# Altium footprint library Analog Devices Operational Amplifiers.PcbLib: 122 footprints (part 1 of 8)
Each footprint in its own frame and in the unit in brackets; x right, y up, seen from the top. Pads: shape width x height; smd on the part's side, far side on the other; paste and mask are expansions set on the pad; w line width, h text height; cw(c..) or ccw(c..) is an arc to the next point about the centre after c.
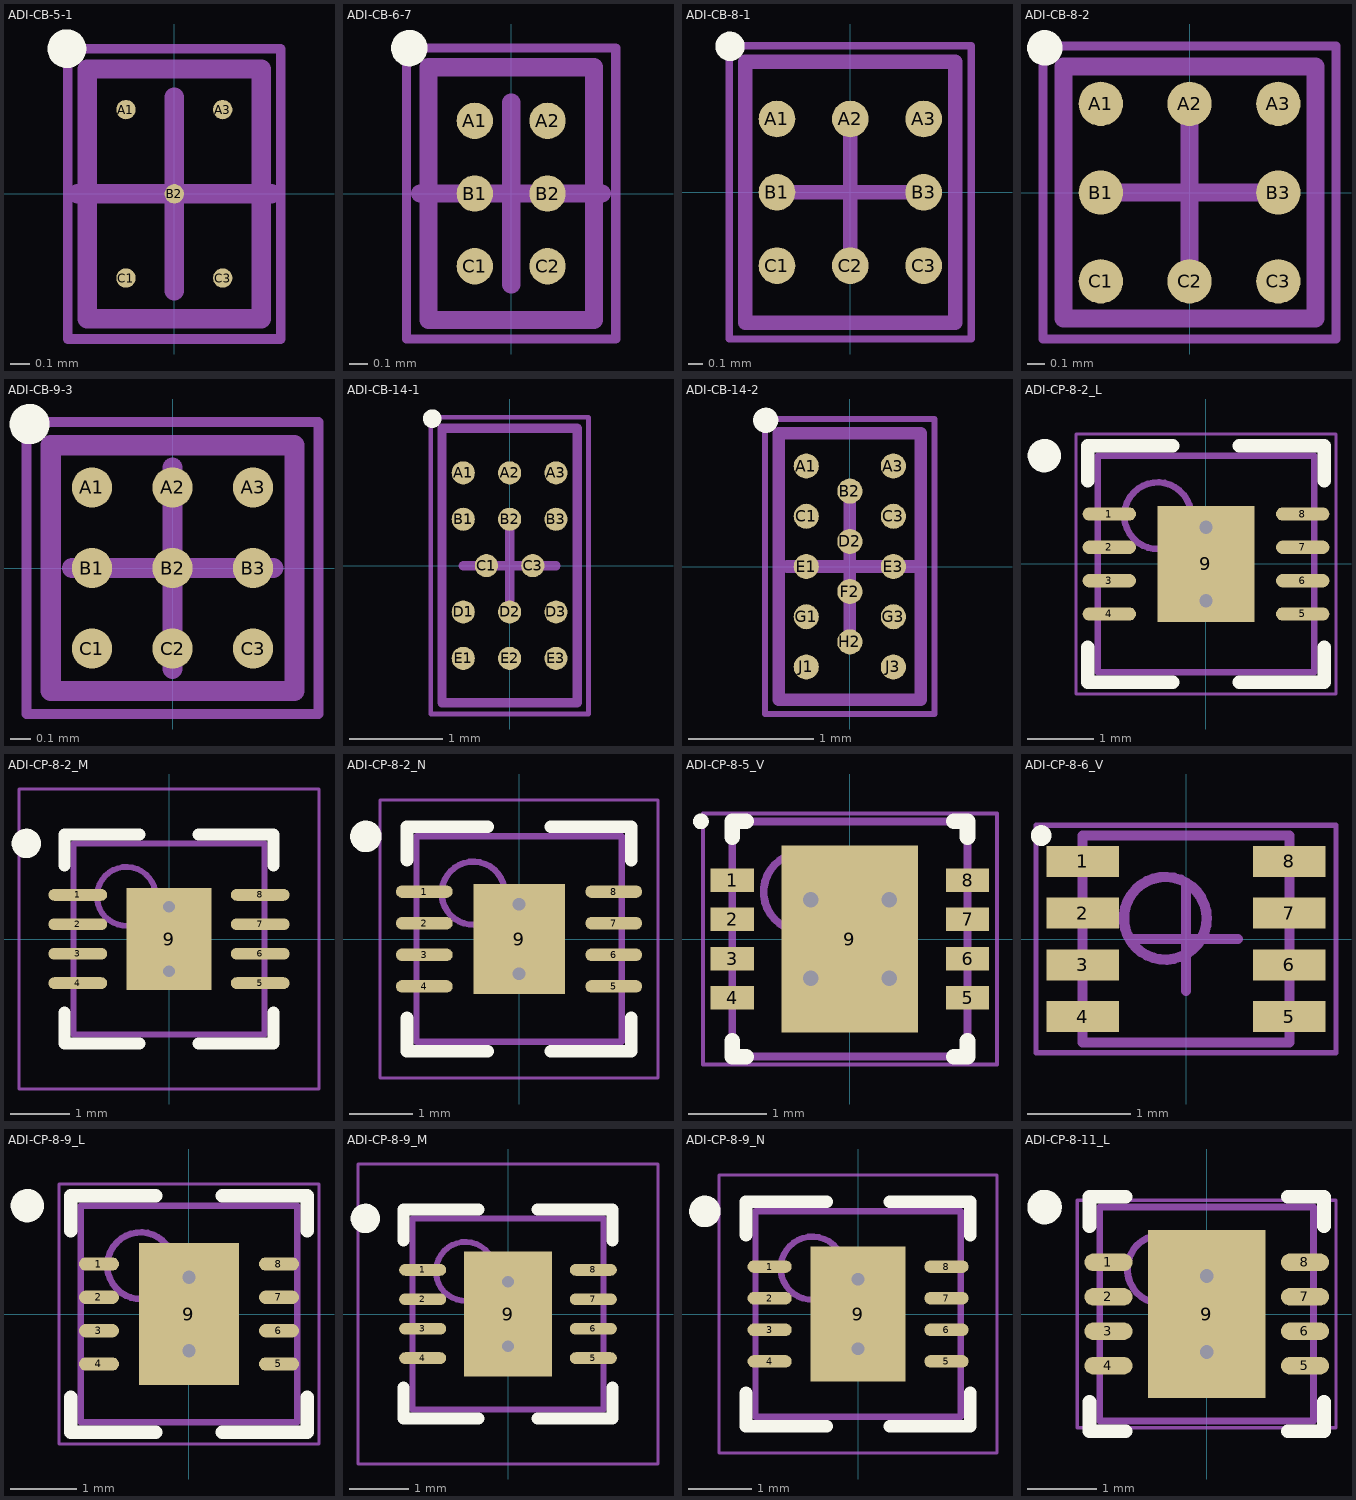
[diagram p0: the footprints below, top view; thin cyan lines are the x and y axes]

## ADI-CB-5-1 [mm] "BGA, 5-Balls, Body 1.29x0.9mm, Pitch 0.5mm"
height 0.5
pads (5):
  round 0.1 smd: A1(-0.25,0.435) A3(0.25,0.435) B2(0,0) C1(-0.25,-0.435) C3(0.25,-0.435)
Top Overlay:
  circle w0.1: c-0.555,0.75 r0.05
Mechanical 13:
  lines w0.1: -0.45,-0.645 -0.45,0.645 0.45,0.645 0.45,-0.645 -0.45,-0.645
Mechanical 15:
  lines w0.05: -0.55,-0.75 -0.55,0.75 0.55,0.75 0.55,-0.75 -0.55,-0.75
  lines w0.1: -0.5,0 0.5,0 ; 0,-0.5 0,0.5
3D body: height 0.5, standoff 0.12, extent -0.45,-0.645 0.45,0.645

## ADI-CB-6-7 [mm] "BGA, 6-Balls, Body 1.385x0.905mm, Pitch 0.4mm"
height 0.65
pads (6):
  round 0.2 smd: A1(-0.2,0.4) A2(0.2,0.4) B1(-0.2,0) B2(0.2,0) C1(-0.2,-0.4) C2(0.2,-0.4)
Top Overlay:
  circle w0.1: c-0.56,0.8 r0.05
Mechanical 13:
  lines w0.1: -0.455,-0.695 -0.455,0.695 0.455,0.695 0.455,-0.695 -0.455,-0.695
Mechanical 15:
  lines w0.05: -0.575,-0.8 -0.575,0.8 0.575,0.8 0.575,-0.8 -0.575,-0.8
  lines w0.1: -0.5,0 0.5,0 ; 0,-0.5 0,0.5
3D body: height 0.65, standoff 0.17, extent -0.455,-0.695 0.455,0.695

## ADI-CB-8-1 [mm] "BGA, 8-Balls, Body 1.775x1.43mm, Pitch 0.5mm"
height 0.68
pads (8):
  round 0.25 smd: A1(-0.5,0.5) A2(0,0.5) A3(0.5,0.5) B1(-0.5,0) B3(0.5,0) C1(-0.5,-0.5) C2(0,-0.5) C3(0.5,-0.5)
Top Overlay:
  circle w0.1: c-0.82,0.995 r0.05
Mechanical 13:
  lines w0.1: -0.715,-0.89 -0.715,0.89 0.715,0.89 0.715,-0.89 -0.715,-0.89
Mechanical 15:
  lines w0.05: -0.825,-1 -0.825,1 0.825,1 0.825,-1 -0.825,-1
  lines w0.1: -0.5,0 0.5,0 ; 0,-0.5 0,0.5
3D body: height 0.68, standoff 0.21, extent -0.715,-0.89 0.715,0.89

## ADI-CB-8-2 [mm] "BGA, 8-Balls, Body 1.42x1.42mm, Pitch 0.5mm"
height 0.65
pads (8):
  round 0.25 smd: A1(-0.5,0.5) A2(0,0.5) A3(0.5,0.5) B1(-0.5,0) B3(0.5,0) C1(-0.5,-0.5) C2(0,-0.5) C3(0.5,-0.5)
Top Overlay:
  circle w0.1: c-0.815,0.815 r0.05
Mechanical 13:
  lines w0.1: -0.71,-0.71 -0.71,0.71 0.71,0.71 0.71,-0.71 -0.71,-0.71
Mechanical 15:
  lines w0.05: -0.825,-0.825 -0.825,0.825 0.825,0.825 0.825,-0.825 -0.825,-0.825
  lines w0.1: -0.5,0 0.5,0 ; 0,-0.5 0,0.5
3D body: height 0.65, standoff 0.21, extent -0.71,-0.71 0.71,0.71

## ADI-CB-9-3 [mm] "BGA, 9-Balls, Body 1.22x1.21mm, Pitch 0.4mm"
height 0.65
pads (9):
  round 0.2 smd: A1(-0.4,0.4) A2(0,0.4) A3(0.4,0.4) B1(-0.4,0) B2(0,0) B3(0.4,0) C1(-0.4,-0.4) C2(0,-0.4) C3(0.4,-0.4)
Top Overlay:
  circle w0.1: c-0.71,0.715 r0.05
Mechanical 13:
  lines w0.1: -0.605,-0.61 -0.605,0.61 0.605,0.61 0.605,-0.61 -0.605,-0.61
Mechanical 15:
  lines w0.05: -0.725,-0.725 -0.725,0.725 0.725,0.725 0.725,-0.725 -0.725,-0.725
  lines w0.1: -0.5,0 0.5,0 ; 0,-0.5 0,0.5
3D body: height 0.65, standoff 0.17, extent -0.605,-0.61 0.605,0.61

## ADI-CB-14-1 [mm] "BGA, 14-Balls, Body 2.96x1.46mm, Pitch 0.5mm"
height 0.65
pads (14):
  round 0.25 smd: A1(-0.5,1) A2(0,1) A3(0.5,1) B1(-0.5,0.5) B2(0,0.5) B3(0.5,0.5) C1(-0.25,0) C3(0.25,0) D1(-0.5,-0.5) D2(0,-0.5) D3(0.5,-0.5) E1(-0.5,-1) E2(0,-1) E3(0.5,-1)
Top Overlay:
  circle w0.1: c-0.835,1.585 r0.05
Mechanical 13:
  lines w0.1: -0.73,-1.48 0.73,-1.48 0.73,1.48 -0.73,1.48 -0.73,-1.48
Mechanical 15:
  lines w0.05: -0.85,-1.6 0.85,-1.6 0.85,1.6 -0.85,1.6 -0.85,-1.6
  lines w0.1: -0.5,0 0.5,0 ; 0,-0.5 0,0.5
3D body: height 0.65, standoff 0.21, extent -0.73,-1.48 0.73,1.48

## ADI-CB-14-2 [mm] "BGA, 14-Balls, Body 2.123x1.128mm, Pitch 0.4mm"
height 0.65
pads (14):
  round 0.2 smd: A1(-0.347,0.8) A3(0.347,0.8) B2(0,0.6) C1(-0.347,0.4) C3(0.347,0.4) D2(0,0.2) E1(-0.347,0) E3(0.347,0) F2(0,-0.2) G1(-0.347,-0.4) G3(0.347,-0.4) H2(0,-0.6) J1(-0.347,-0.8) J3(0.347,-0.8)
Top Overlay:
  circle w0.1: c-0.67,1.165 r0.05
Mechanical 13:
  lines w0.1: -0.565,-1.06 -0.565,1.06 0.565,1.06 0.565,-1.06 -0.565,-1.06
Mechanical 15:
  lines w0.05: -0.675,-1.175 -0.675,1.175 0.675,1.175 0.675,-1.175 -0.675,-1.175
  lines w0.1: -0.5,0 0.5,0 ; 0,-0.5 0,0.5
3D body: height 0.65, standoff 0.17, extent -0.565,-1.06 0.565,1.06

## ADI-CP-8-2_L [mm] "QFN, 8-Leads, Body 3x3mm, Pitch 0.5mm, Thermal Pad 1.45X1.74mm, IPC High Density"
height 0.9
pads (9):
  oval 0.8x0.2 smd: 1(-1.45,0.75) 2(-1.45,0.25) 3(-1.45,-0.25) 4(-1.45,-0.75) 5(1.45,-0.75) 6(1.45,-0.25) 7(1.45,0.25) 8(1.45,0.75)
  rect 1.45x1.74 smd: 9(0,0)
via 0,0.55 diameter 0.5 hole 0.2
via 0,-0.55 diameter 0.5 hole 0.2
Top Overlay:
  circle w0.25: c-2.425,1.625 r0.125
  lines w0.2: -1.775,-1.25 -1.775,-1.775 -0.5,-1.775 ; -1.775,1.25 -1.775,1.775 -0.5,1.775 ; 0.5,-1.775 1.775,-1.775 1.775,-1.25 ; 0.5,1.775 1.775,1.775 1.775,1.25
Mechanical 13:
  circle w0.1: c-0.725,0.725 r0.5
  lines w0.1: -1.625,-1.625 -1.625,1.625 1.625,1.625 1.625,-1.625 -1.625,-1.625
Mechanical 15:
  lines w0.05: -1.95,-1.95 -1.95,1.95 1.95,1.95 1.95,-1.95 -1.95,-1.95
  lines w0.1: -0.5,0 0.5,0 ; 0,-0.5 0,0.5
3D body: height 0.9, standoff 0, extent -1.625,-1.625 1.625,1.625

## ADI-CP-8-2_M [mm] "QFN, 8-Leads, Body 3x3mm, Pitch 0.5mm, Thermal Pad 1.45X1.74mm, IPC Low Density"
height 0.9
pads (9):
  oval 1x0.2 smd: 1(-1.55,0.75) 2(-1.55,0.25) 3(-1.55,-0.25) 4(-1.55,-0.75) 5(1.55,-0.75) 6(1.55,-0.25) 7(1.55,0.25) 8(1.55,0.75)
  rect 1.45x1.74 smd: 9(0,0)
via 0,0.55 diameter 0.5 hole 0.2
via 0,-0.55 diameter 0.5 hole 0.2
Top Overlay:
  circle w0.25: c-2.425,1.625 r0.125
  lines w0.2: -1.775,-1.25 -1.775,-1.775 -0.5,-1.775 ; -1.775,1.25 -1.775,1.775 -0.5,1.775 ; 0.5,-1.775 1.775,-1.775 1.775,-1.25 ; 0.5,1.775 1.775,1.775 1.775,1.25
Mechanical 13:
  circle w0.1: c-0.725,0.725 r0.5
  lines w0.1: -1.625,-1.625 -1.625,1.625 1.625,1.625 1.625,-1.625 -1.625,-1.625
Mechanical 15:
  lines w0.05: -2.55,-2.55 -2.55,2.55 2.55,2.55 2.55,-2.55 -2.55,-2.55
  lines w0.1: -0.5,0 0.5,0 ; 0,-0.5 0,0.5
3D body: height 0.9, standoff 0, extent -1.625,-1.625 1.625,1.625

## ADI-CP-8-2_N [mm] "QFN, 8-Leads, Body 3x3mm, Pitch 0.5mm, Thermal Pad 1.45X1.74mm, IPC Medium Density"
height 0.9
pads (9):
  oval 0.9x0.2 smd: 1(-1.5,0.75) 2(-1.5,0.25) 3(-1.5,-0.25) 4(-1.5,-0.75) 5(1.5,-0.75) 6(1.5,-0.25) 7(1.5,0.25) 8(1.5,0.75)
  rect 1.45x1.74 smd: 9(0,0)
via 0,0.55 diameter 0.5 hole 0.2
via 0,-0.55 diameter 0.5 hole 0.2
Top Overlay:
  circle w0.25: c-2.425,1.625 r0.125
  lines w0.2: -1.775,-1.25 -1.775,-1.775 -0.5,-1.775 ; -1.775,1.25 -1.775,1.775 -0.5,1.775 ; 0.5,-1.775 1.775,-1.775 1.775,-1.25 ; 0.5,1.775 1.775,1.775 1.775,1.25
Mechanical 13:
  circle w0.1: c-0.725,0.725 r0.5
  lines w0.1: -1.625,-1.625 -1.625,1.625 1.625,1.625 1.625,-1.625 -1.625,-1.625
Mechanical 15:
  lines w0.05: -2.2,-2.2 -2.2,2.2 2.2,2.2 2.2,-2.2 -2.2,-2.2
  lines w0.1: -0.5,0 0.5,0 ; 0,-0.5 0,0.5
3D body: height 0.9, standoff 0, extent -1.625,-1.625 1.625,1.625

## ADI-CP-8-5_V [mm] "SON, 8-Leads, Body 3x3mm, Pitch 0.5mm, Thermal Pad 1.74x2.38mm"
height 0.8
pads (9):
  rect 0.55x0.3 smd mask+0.102: 1(-1.5,0.75) 2(-1.5,0.25) 3(-1.5,-0.25) 4(-1.5,-0.75) 5(1.5,-0.75) 6(1.5,-0.25) 7(1.5,0.25) 8(1.5,0.75)
  rect 1.74x2.38 smd mask+0.102: 9(0,0)
via -0.5,0.5 diameter 0.5 hole 0.2
via 0.5,0.5 diameter 0.5 hole 0.2
via -0.5,-0.5 diameter 0.5 hole 0.2
via 0.5,-0.5 diameter 0.5 hole 0.2
Top Overlay:
  circle w0.1: c-1.9,1.5 r0.05
  lines w0.2: -1.5,-1.3 -1.5,-1.5 -1.325,-1.5 ; -1.5,1.3 -1.5,1.5 -1.325,1.5 ; 1.325,-1.5 1.5,-1.5 1.5,-1.3 ; 1.325,1.5 1.5,1.5 1.5,1.3
Mechanical 13:
  circle w0.1: c-0.6,0.6 r0.5
  lines w0.1: -1.5,-1.5 -1.5,1.5 1.5,1.5 1.5,-1.5 -1.5,-1.5
Mechanical 15:
  lines w0.05: -1.875,-1.6 -1.875,1.6 1.875,1.6 1.875,-1.6 -1.875,-1.6
  lines w0.1: -0.5,0 0.5,0 ; 0,-0.5 0,0.5
3D body: height 0.8, standoff 0, extent -1.5,-1.5 1.5,1.5

## ADI-CP-8-6_V [mm] "SON, 8-Leads, Body 2x2mm, Pitch 0.5mm"
height 0.65
pads (8):
  rect 0.7x0.3 smd mask+0.102: 1(-1,0.75) 2(-1,0.25) 3(-1,-0.25) 4(-1,-0.75) 5(1,-0.75) 6(1,-0.25) 7(1,0.25) 8(1,0.75)
Top Overlay:
  circle w0.1: c-1.4,1 r0.05
Mechanical 13:
  circle w0.1: c-0.2,0.2 r0.4
  lines w0.1: -1,-1 -1,1 1,1 1,-1 -1,-1
Mechanical 15:
  lines w0.05: -1.45,-1.1 -1.45,1.1 1.45,1.1 1.45,-1.1 -1.45,-1.1
  lines w0.1: -0.5,0 0.5,0 ; 0,-0.5 0,0.5
3D body: height 0.65, standoff 0, extent -1,-1 1,1

## ADI-CP-8-9_L [mm] "QFN, 8-Leads, Body 3x3mm, Pitch 0.5mm, Thermal Pad 1.5x2.13mm, IPC High Density"
height 0.9
pads (9):
  oval 0.6x0.2 smd: 1(-1.35,0.75) 2(-1.35,0.25) 3(-1.35,-0.25) 4(-1.35,-0.75) 5(1.35,-0.75) 6(1.35,-0.25) 7(1.35,0.25) 8(1.35,0.75)
  rect 1.5x2.13 smd: 9(0,0)
via 0,0.55 diameter 0.5 hole 0.2
via 0,-0.55 diameter 0.5 hole 0.2
Top Overlay:
  circle w0.25: c-2.425,1.625 r0.125
  lines w0.2: -1.775,-1.25 -1.775,-1.775 -0.5,-1.775 ; -1.775,1.25 -1.775,1.775 -0.5,1.775 ; 0.5,-1.775 1.775,-1.775 1.775,-1.25 ; 0.5,1.775 1.775,1.775 1.775,1.25
Mechanical 13:
  circle w0.1: c-0.725,0.725 r0.5
  lines w0.1: -1.625,-1.625 -1.625,1.625 1.625,1.625 1.625,-1.625 -1.625,-1.625
Mechanical 15:
  lines w0.05: -1.95,-1.95 -1.95,1.95 1.95,1.95 1.95,-1.95 -1.95,-1.95
  lines w0.1: -0.5,0 0.5,0 ; 0,-0.5 0,0.5
3D body: height 0.9, standoff 0, extent -1.625,-1.625 1.625,1.625

## ADI-CP-8-9_M [mm] "QFN, 8-Leads, Body 3x3mm, Pitch 0.5mm, Thermal Pad 1.5x2.13mm, IPC Low Density"
height 0.9
pads (9):
  oval 0.8x0.2 smd: 1(-1.45,0.75) 2(-1.45,0.25) 3(-1.45,-0.25) 4(-1.45,-0.75) 5(1.45,-0.75) 6(1.45,-0.25) 7(1.45,0.25) 8(1.45,0.75)
  rect 1.5x2.13 smd: 9(0,0)
via 0,0.55 diameter 0.5 hole 0.2
via 0,-0.55 diameter 0.5 hole 0.2
Top Overlay:
  circle w0.25: c-2.425,1.625 r0.125
  lines w0.2: -1.775,-1.25 -1.775,-1.775 -0.5,-1.775 ; -1.775,1.25 -1.775,1.775 -0.5,1.775 ; 0.5,-1.775 1.775,-1.775 1.775,-1.25 ; 0.5,1.775 1.775,1.775 1.775,1.25
Mechanical 13:
  circle w0.1: c-0.725,0.725 r0.5
  lines w0.1: -1.625,-1.625 -1.625,1.625 1.625,1.625 1.625,-1.625 -1.625,-1.625
Mechanical 15:
  lines w0.05: -2.55,-2.55 -2.55,2.55 2.55,2.55 2.55,-2.55 -2.55,-2.55
  lines w0.1: -0.5,0 0.5,0 ; 0,-0.5 0,0.5
3D body: height 0.9, standoff 0, extent -1.625,-1.625 1.625,1.625

## ADI-CP-8-9_N [mm] "QFN, 8-Leads, Body 3x3mm, Pitch 0.5mm, Thermal Pad 1.5x2.13mm, IPC Medium Density"
height 0.9
pads (9):
  oval 0.7x0.2 smd: 1(-1.4,0.75) 2(-1.4,0.25) 3(-1.4,-0.25) 4(-1.4,-0.75) 5(1.4,-0.75) 6(1.4,-0.25) 7(1.4,0.25) 8(1.4,0.75)
  rect 1.5x2.13 smd: 9(0,0)
via 0,0.55 diameter 0.5 hole 0.2
via 0,-0.55 diameter 0.5 hole 0.2
Top Overlay:
  circle w0.25: c-2.425,1.625 r0.125
  lines w0.2: -1.775,-1.25 -1.775,-1.775 -0.5,-1.775 ; -1.775,1.25 -1.775,1.775 -0.5,1.775 ; 0.5,-1.775 1.775,-1.775 1.775,-1.25 ; 0.5,1.775 1.775,1.775 1.775,1.25
Mechanical 13:
  circle w0.1: c-0.725,0.725 r0.5
  lines w0.1: -1.625,-1.625 -1.625,1.625 1.625,1.625 1.625,-1.625 -1.625,-1.625
Mechanical 15:
  lines w0.05: -2.2,-2.2 -2.2,2.2 2.2,2.2 2.2,-2.2 -2.2,-2.2
  lines w0.1: -0.5,0 0.5,0 ; 0,-0.5 0,0.5
3D body: height 0.9, standoff 0, extent -1.625,-1.625 1.625,1.625

## ADI-CP-8-11_L [mm] "SON, 8-Leads, Body 3x3mm, Pitch 0.5mm, Thermal Pad 2.34 x 1.60mm, IPC High Density"
height 0.8
pads (9):
  oval 0.7x0.25 smd: 1(-1.425,0.75) 2(-1.425,0.25) 3(-1.425,-0.25) 4(-1.425,-0.75) 5(1.425,-0.75) 6(1.425,-0.25) 7(1.425,0.25) 8(1.425,0.75)
  rect 1.7x2.44 smd paste-0.85: 9(0,0)
via 0,-0.55 diameter 0.5 hole 0.2
via 0,0.55 diameter 0.5 hole 0.2
Top Overlay:
  circle w0.25: c-2.35,1.55 r0.125
  lines w0.2: -1.7,-1.275 -1.7,-1.7 -1.175,-1.7 ; -1.7,1.275 -1.7,1.7 -1.175,1.7 ; 1.175,-1.7 1.7,-1.7 1.7,-1.275 ; 1.175,1.7 1.7,1.7 1.7,1.275
Top Paste:
  rectangle: -0.8,0.15 0.8,1.15
  region: 0.8,-0.15 -0.8,-0.15 -0.8,-1.15 0.8,-1.15
Mechanical 13:
  circle w0.1: c-0.65,0.65 r0.5
  lines w0.1: -1.55,-1.55 -1.55,1.55 1.55,1.55 1.55,-1.55 -1.55,-1.55
Mechanical 15:
  lines w0.05: -1.875,-1.65 -1.875,1.65 1.875,1.65 1.875,-1.65 -1.875,-1.65
  lines w0.1: -0.5,0 0.5,0 ; 0,-0.5 0,0.5
3D body: height 0.8, standoff 0, extent -1.55,-1.55 1.55,1.55